# Altium footprint library OSC_S33305T-14.7456-X-R.PcbLib: 1 footprints
Each footprint in its own frame and in the unit in brackets; x right, y up, seen from the top. Pads: shape width x height; smd on the part's side, far side on the other; paste and mask are expansions set on the pad; w line width, h text height; cw(c..) or ccw(c..) is an arc to the next point about the centre after c.
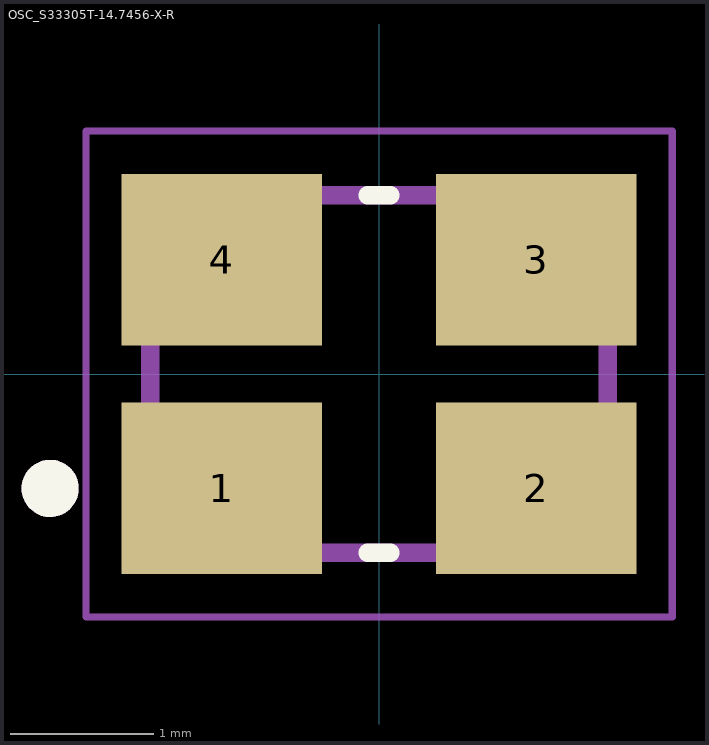
[diagram p0: the footprint, top view; thin cyan lines are the x and y axes]

## OSC_S33305T-14.7456-X-R [mm]
height 1.2
pads (4):
  rect 1.4x1.2 smd: 1(-1.1,-0.8) 2(1.1,-0.8) 3(1.1,0.8) 4(-1.1,0.8)
Top Overlay:
  circle w0.2: c-2.3,-0.8 r0.1
  lines w0.127: -0.08,-1.25 0.08,-1.25 ; -0.08,1.25 0.08,1.25
Assembly Top:
  circle w0.2: c-2.3,-0.8 r0.1
  lines w0.127: -1.6,-1.25 -1.6,1.25 1.6,1.25 1.6,-1.25 -1.6,-1.25
Courtyard Top:
  lines w0.05: -2.05,-1.7 -2.05,1.7 2.05,1.7 2.05,-1.7 -2.05,-1.7
3D body "step_temp.STEP": height 1.2, standoff 0, extent -1.6,-1.25 1.6,1.25